# EAGLE library part STM32-100 (library omc)
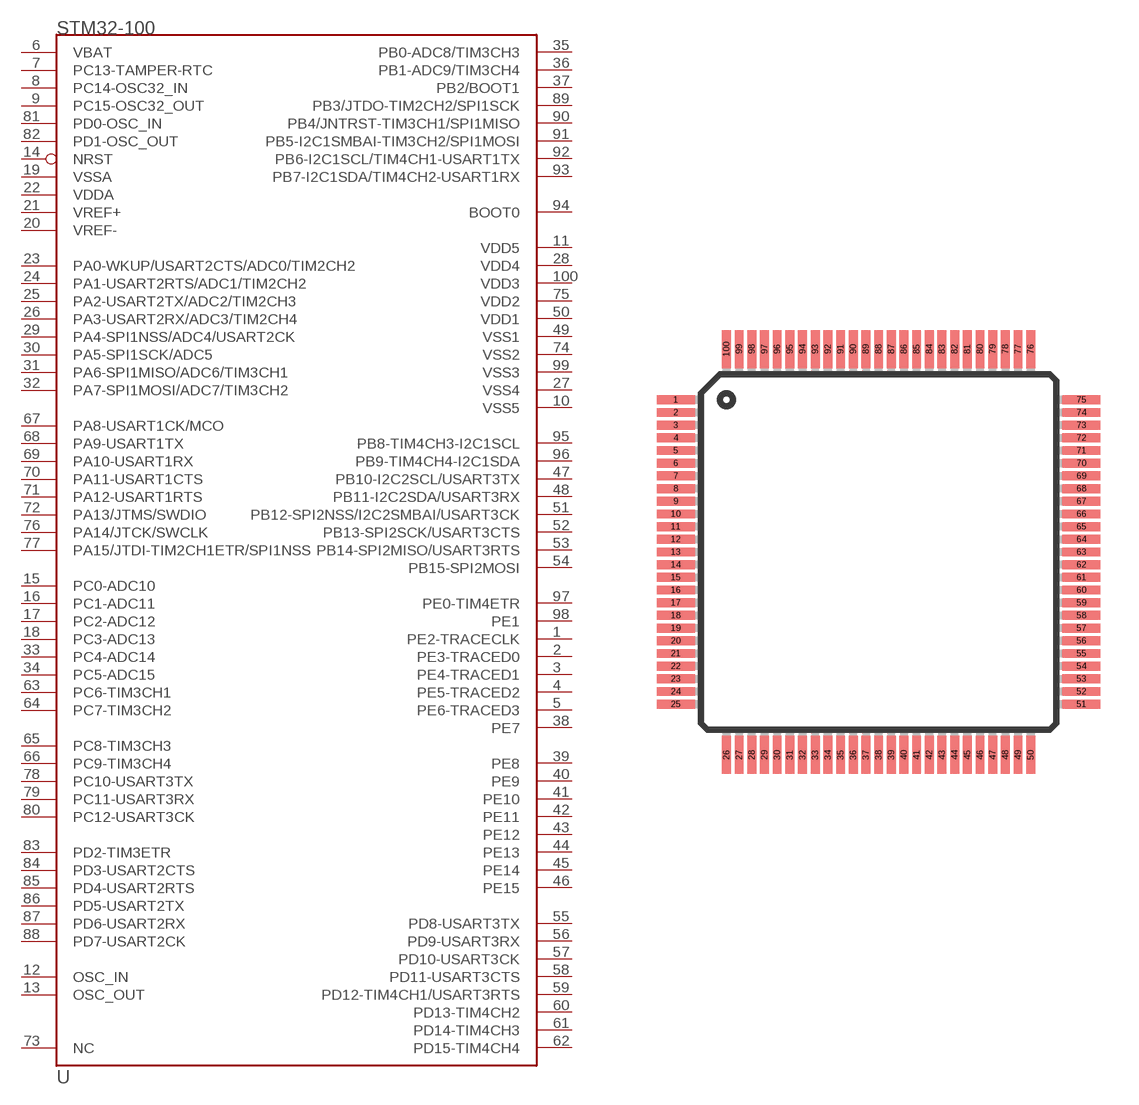
[diagram p2: symbol with the pads of TQFP100; footprint TQFP100]

Designator prefix -

## STM32-100  [TQFP100]
1  PE2-TRACECLK
2  PE3-TRACED0
3  PE4-TRACED1
4  PE5-TRACED2
5  PE6-TRACED3
6  VBAT  sup
7  PC13-TAMPER-RTC
8  PC14-OSC32_IN
9  PC15-OSC32_OUT
10  VSS5
11  VDD5
12  OSC_IN
13  OSC_OUT
14  NRST
15  PC0-ADC10
16  PC1-ADC11
17  PC2-ADC12
18  PC3-ADC13
19  VSSA  sup
20  VREF-
21  VREF+
22  VDDA  sup
23  PA0-WKUP/USART2CTS/ADC0/TIM2CH2
24  PA1-USART2RTS/ADC1/TIM2CH2
25  PA2-USART2TX/ADC2/TIM2CH3
26  PA3-USART2RX/ADC3/TIM2CH4
27  VSS4
28  VDD4
29  PA4-SPI1NSS/ADC4/USART2CK
30  PA5-SPI1SCK/ADC5
31  PA6-SPI1MISO/ADC6/TIM3CH1
32  PA7-SPI1MOSI/ADC7/TIM3CH2
33  PC4-ADC14
34  PC5-ADC15
35  PB0-ADC8/TIM3CH3
36  PB1-ADC9/TIM3CH4
37  PB2/BOOT1
38  PE7
39  PE8
40  PE9
41  PE10
42  PE11
43  PE12
44  PE13
45  PE14
46  PE15
47  PB10-I2C2SCL/USART3TX
48  PB11-I2C2SDA/USART3RX
49  VSS1  sup
50  VDD1  sup
51  PB12-SPI2NSS/I2C2SMBAI/USART3CK
52  PB13-SPI2SCK/USART3CTS
53  PB14-SPI2MISO/USART3RTS
54  PB15-SPI2MOSI
55  PD8-USART3TX
56  PD9-USART3RX
57  PD10-USART3CK
58  PD11-USART3CTS
59  PD12-TIM4CH1/USART3RTS
60  PD13-TIM4CH2
61  PD14-TIM4CH3
62  PD15-TIM4CH4
63  PC6-TIM3CH1
64  PC7-TIM3CH2
65  PC8-TIM3CH3
66  PC9-TIM3CH4
67  PA8-USART1CK/MCO
68  PA9-USART1TX
69  PA10-USART1RX
70  PA11-USART1CTS
71  PA12-USART1RTS
72  PA13/JTMS/SWDIO
73  NC  nc
74  VSS2  sup
75  VDD2  sup
76  PA14/JTCK/SWCLK
77  PA15/JTDI-TIM2CH1ETR/SPI1NSS
78  PC10-USART3TX
79  PC11-USART3RX
80  PC12-USART3CK
81  PD0-OSC_IN  in
82  PD1-OSC_OUT  out
83  PD2-TIM3ETR
84  PD3-USART2CTS
85  PD4-USART2RTS
86  PD5-USART2TX
87  PD6-USART2RX
88  PD7-USART2CK
89  PB3/JTDO-TIM2CH2/SPI1SCK
90  PB4/JNTRST-TIM3CH1/SPI1MISO
91  PB5-I2C1SMBAI-TIM3CH2/SPI1MOSI
92  PB6-I2C1SCL/TIM4CH1-USART1TX
93  PB7-I2C1SDA/TIM4CH2-USART1RX
94  BOOT0  in
95  PB8-TIM4CH3-I2C1SCL
96  PB9-TIM4CH4-I2C1SDA
97  PE0-TIM4ETR
98  PE1
99  VSS3  sup
100  VDD3  sup

## Footprint TQFP100 (pad centres in mm)
smd 1.5 x 0.35: 1 -8,6; 2 -8,5.5; 3 -8,5; 4 -8,4.5; 5 -8,4; 6 -8,3.5; 7 -8,3; 8 -8,2.5; 9 -8,2; 10 -8,1.5; 11 -8,1; 12 -8,0.5; 13 -8,0; 14 -8,-0.5; 15 -8,-1; 16 -8,-1.5; 17 -8,-2; 18 -8,-2.5; 19 -8,-3; 20 -8,-3.5; 21 -8,-4; 22 -8,-4.5; 23 -8,-5; 24 -8,-5.5; 25 -8,-6; 51 8,-6; 52 8,-5.5; 53 8,-5; 54 8,-4.5; 55 8,-4; 56 8,-3.5; 57 8,-3; 58 8,-2.5; 59 8,-2; 60 8,-1.5; 61 8,-1; 62 8,-0.5; 63 8,0; 64 8,0.5; 65 8,1; 66 8,1.5; 67 8,2; 68 8,2.5; 69 8,3; 70 8,3.5; 71 8,4; 72 8,4.5; 73 8,5; 74 8,5.5; 75 8,6
smd 0.35 x 1.5: 26 -6,-8; 27 -5.5,-8; 28 -5,-8; 29 -4.5,-8; 30 -4,-8; 31 -3.5,-8; 32 -3,-8; 33 -2.5,-8; 34 -2,-8; 35 -1.5,-8; 36 -1,-8; 37 -0.5,-8; 38 0,-8; 39 0.5,-8; 40 1,-8; 41 1.5,-8; 42 2,-8; 43 2.5,-8; 44 3,-8; 45 3.5,-8; 46 4,-8; 47 4.5,-8; 48 5,-8; 49 5.5,-8; 50 6,-8; 76 6,8; 77 5.5,8; 78 5,8; 79 4.5,8; 80 4,8; 81 3.5,8; 82 3,8; 83 2.5,8; 84 2,8; 85 1.5,8; 86 1,8; 87 0.5,8; 88 0,8; 89 -0.5,8; 90 -1,8; 91 -1.5,8; 92 -2,8; 93 -2.5,8; 94 -3,8; 95 -3.5,8; 96 -4,8; 97 -4.5,8; 98 -5,8; 99 -5.5,8; 100 -6,8